# EAGLE library part 502386-0670 (library molex)
CONN RCPT R/A 6POS 1.25MM PCB tested: NO
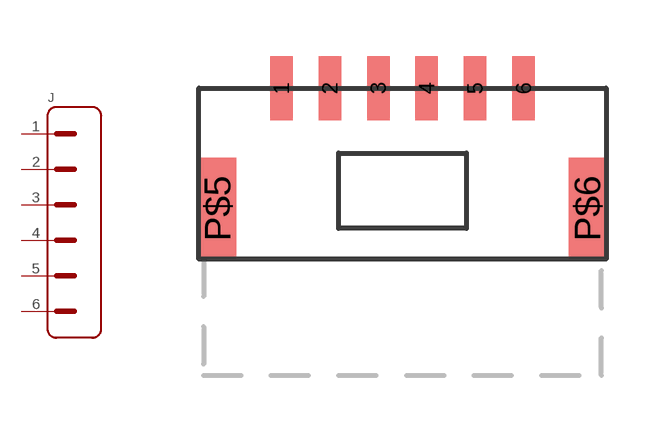
[diagram p4: symbol with the pads of 502386-0670; footprint 502386-0670]

Designator prefix J

## 502386-0670  [502386-0670]
1  1
2  2
3  3
4  4
5  5
6  6

## Footprint 502386-0670 (pad centres in mm)
smd 0.6 x 1.7: 1 -3.225,3.2; 2 -1.935,3.2; 3 -0.645,3.2; 4 0.645,3.2; 5 1.935,3.2; 6 3.225,3.2
smd 1 x 2.7: P$5 -4.925,0; P$6 4.925,0